# Altium footprint library SMD_transistors_packages.PcbLib: 1 footprints
Each footprint in its own frame and in the unit in brackets; x right, y up, seen from the top. Pads: shape width x height; smd on the part's side, far side on the other; paste and mask are expansions set on the pad; w line width, h text height; cw(c..) or ccw(c..) is an arc to the next point about the centre after c.
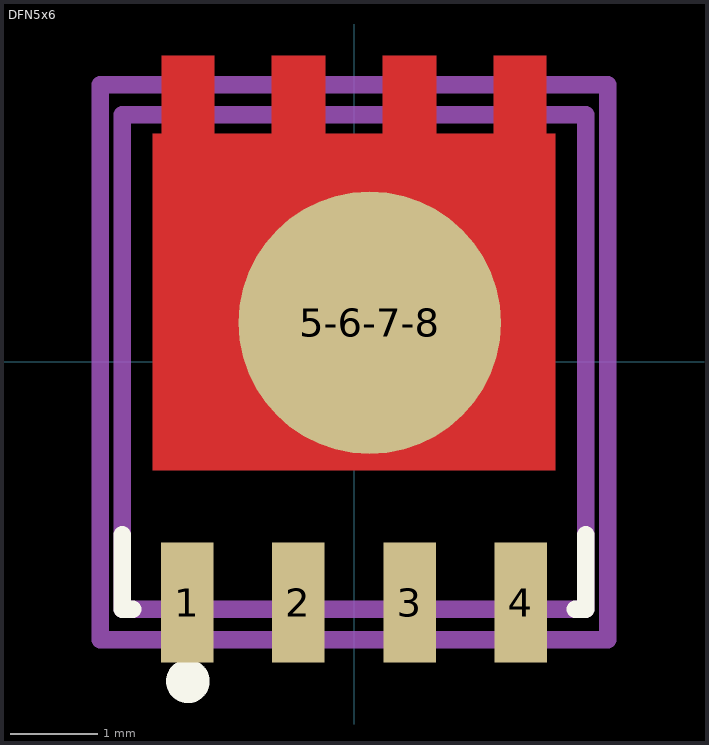
[diagram p0: the footprint, top view; thin cyan lines are the x and y axes]

## DFN5x6 [mm]
pads (5):
  rect 0.6x1.375 smd paste+0 mask+0: 1(-1.905,-2.75) 2(-0.635,-2.75) 3(0.635,-2.75) 4(1.905,-2.75)
  round 3 smd paste+0 mask+0: 5-6-7-8(0.18,0.448)
Top Layer:
  region: -2.3,-1.24 2.3,-1.24 2.3,2.61 2.2,2.61 2.2,3.5 1.6,3.5 1.6,2.61 0.94,2.61 0.94,3.5 0.33,3.5 0.33,2.61 -0.33,2.61 -0.33,3.5 -0.94,3.5 -0.94,2.61 -1.6,2.61 -1.6,3.5 -2.2,3.5 -2.2,2.61 -2.3,2.61
Top Overlay:
  circle w0.25: c-1.9,-3.65 r0.125
  lines w0.2: -2.65,-1.975 -2.65,-2.825 -2.53,-2.825 ; 2.53,-2.825 2.65,-2.825 2.65,-1.975
Top Assembly:
  lines w0.2: -2.9,-3.175 -2.9,3.17 2.9,3.17 2.9,-3.175 -2.9,-3.175
  text ".Designator" at 0,0.185 h1
Top 3D Body:
  lines w0.2: -2.65,-2.825 -2.65,2.825 2.65,2.825 2.65,-2.825 -2.65,-2.825
Top Courtyard:
  lines w0.2: -2.9,-3.175 2.9,-3.175 2.9,3.17 -2.9,3.17 -2.9,-3.175
Top Component Center:
  lines w0.1: -0.5,0 0.5,0 ; 0,-0.5 0,0.5
3D body "Trans_Alpha_&_Omega_Semiconductor_AON6442_eec.STEP": height 0.25, standoff 0, extent -2.9,-3.175 2.9,3.17